# Altium footprint library R_1206.PcbLib: 1 footprints
Each footprint in its own frame and in the unit in brackets; x right, y up, seen from the top. Pads: shape width x height; smd on the part's side, far side on the other; paste and mask are expansions set on the pad; w line width, h text height; cw(c..) or ccw(c..) is an arc to the next point about the centre after c.
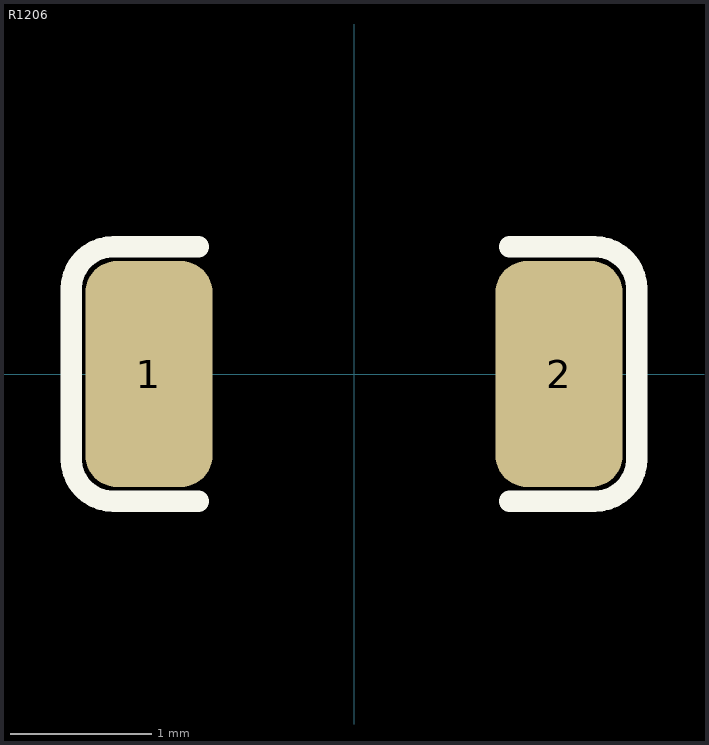
[diagram p0: the footprint, top view; thin cyan lines are the x and y axes]

## R1206 [mm]
pads (2):
  rrect50% 0.9x1.6 smd: 1(-1.45,0) 2(1.45,0)
Top Overlay:
  lines w0.15: -1.1,-0.9 -1.7,-0.9 cw(c-1.7,-0.6) -2,-0.6 -2,0.6 cw(c-1.7,0.6) -1.7,0.9 -1.1,0.9 ; 1.1,-0.9 1.7,-0.9 ccw(c1.7,-0.6) 2,-0.6 2,0.6 ccw(c1.7,0.6) 1.7,0.9 1.1,0.9
3D body "RC1206.stp": height 0.55, standoff 0, extent -1.65,-0.8 1.45,0.8